# Altium footprint library LM317.PcbLib: 2 footprints
Each footprint in its own frame and in the unit in brackets; x right, y up, seen from the top. Pads: shape width x height; smd on the part's side, far side on the other; paste and mask are expansions set on the pad; w line width, h text height; cw(c..) or ccw(c..) is an arc to the next point about the centre after c.
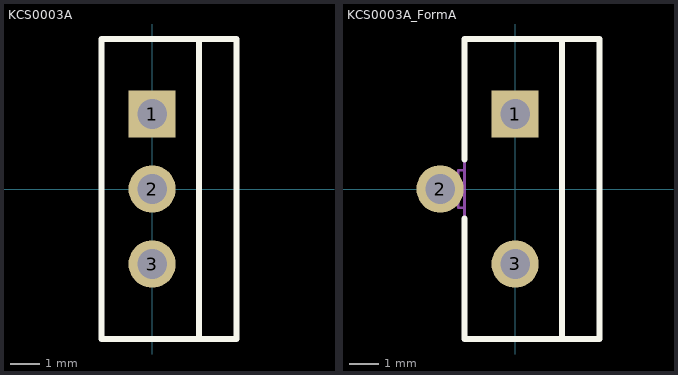
[diagram p0: the footprints below, top view; thin cyan lines are the x and y axes]

## KCS0003A [mm]
pads (3):
  rect 1.6x1.6 / inner round 1.524 / far side rect 1.6x1.6 hole 1 paste+0 mask+0.051: 1(0,2.54)
  round 1.6 / inner round 1.524 / far side round 1.6 hole 1 paste+0 mask+0.051: 2(0,0) 3(0,-2.54)
Top Overlay:
  lines w0.2: 1.588,-5.08 -1.714,-5.08 -1.714,5.08 1.588,5.08 ; 1.588,-5.08 1.588,5.08 ; 1.588,-5.08 2.858,-5.08 2.858,5.08 1.588,5.08
Mechanical 13:
  lines w0.1: 1.588,-5.08 2.858,-5.08 2.858,5.08 1.588,5.08 ; 1.588,-5.08 1.588,5.08 ; 1.588,-5.08 -1.714,-5.08 -1.714,5.08 1.588,5.08
3D body: height 19.35, standoff -9.01, extent -1.778,-5.08 2.792,5.08

## KCS0003A_FormA [mm]
pads (3):
  rect 1.6x1.6 / inner round 1.524 / far side rect 1.6x1.6 hole 1 paste+0 mask+0.051: 1(0,2.54)
  round 1.6 / inner round 1.524 / far side round 1.6 hole 1 paste+0 mask+0.051: 2(-2.54,0) 3(0,-2.54)
Top Overlay:
  lines w0.2: -1.714,-1 -1.714,-5.08 1.588,-5.08 ; -1.714,1 -1.714,5.08 1.588,5.08 ; 1.588,-5.08 1.588,5.08 ; 1.588,-5.08 2.858,-5.08 2.858,5.08 1.588,5.08
Mechanical 13:
  lines w0.1: -1.714,-0.635 -1.927,-0.635 -1.927,-0.406 -2.447,-0.406 -2.76,-0.406 -2.76,0.407 -2.447,0.407 -1.927,0.407 -1.927,0.635 -1.714,0.635 ; 1.588,-5.08 2.858,-5.08 2.858,5.08 1.588,5.08 ; 1.588,-5.08 1.588,5.08 ; 1.588,-5.08 -1.714,-5.08 -1.714,5.08 1.588,5.08